# Altium schematic symbol library Lumex.SchLib: 1 symbol
Pins are listed as number, name and electrical type; pins without a type are passive.

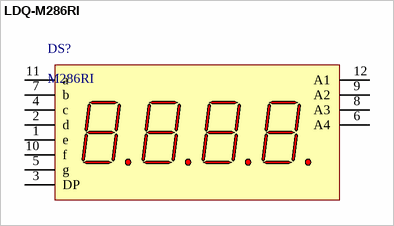
[diagram p0: symbol LDQ-M286RI]

## LDQ-M286RI
designator DS?, comment M286RI
pins: 1 e "Cathode", 2 d "Cathode", 3 DP "Cathode", 4 c "Cathode", 5 g "Cathode", 6 A4 "Anode", 7 b "Cathode", 8 A3 "Anode", 9 A2 "Anode", 10 f "Cathode", 11 a "Cathode", 12 A1 "Anode"